# EAGLE library part RTH34* (library relay)
Power PCB Relay 105°C 16A SCHRACK 1 pole 16 A, high-temperature version Source: http://www.schrack.com/.. 5831.pdf
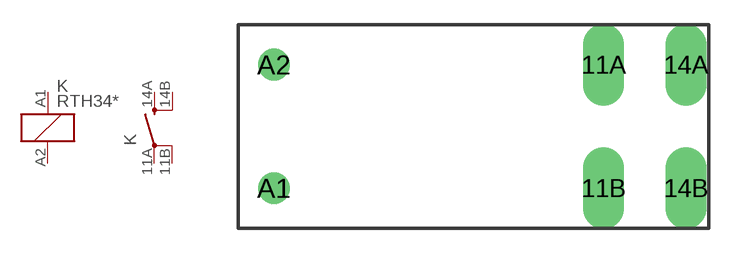
[diagram p116: symbol with the pads of RT-N/O16A5; footprint RT-N/O16A5]

Designator prefix K; gates 1=K 2=S-X2

## RTH34009 (OC_FARNELL: unknown; OC_NEWARK: unknown), RTH34012 (MPN: RTH34012; OC_FARNELL: unknown; OC_NEWARK: 45K1533), RTH34024 (MPN: RTH34024; OC_FARNELL: unknown; OC_NEWARK: 45K1534)  [RT-N/O16A5]
11A  2:PA  pas
11B  2:PB  pas
14A  2:SA  pas
14B  2:SB  pas
A1  1:1  pas
A2  1:2  pas

## Footprint RT-N/O16A5 (pad centres in mm)
Power PCB Relay 1 pole 12 / 16 A, DC- or AC-coil SCHRACK 16 A, pinning 5mm Source: http://www.schrack.com/.. 5819.pdf
drill 1.3 pad 2.5 long: 11A 7.56,3.78; 11B 7.56,-3.78; 14A 12.6,3.78; 14B 12.6,-3.78
drill 1.3: A1 -12.6,-3.78; A2 -12.6,3.78